# Altium schematic symbol library Rez_Gen.SchLib: 1 symbol
Pins are listed as number, name and electrical type; pins without a type are passive.

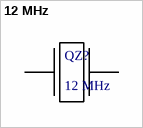
[diagram p0: symbol 12 MHz]

## 12 MHz
designator QZ?
footprint HC-49U_lay
pins: 1, 2